# Altium footprint library Resistor_THT.PcbLib: 104 footprints (part 3 of 7)
Each footprint in its own frame and in the unit in brackets; x right, y up, seen from the top. Pads: shape width x height; smd on the part's side, far side on the other; paste and mask are expansions set on the pad; w line width, h text height; cw(c..) or ccw(c..) is an arc to the next point about the centre after c.
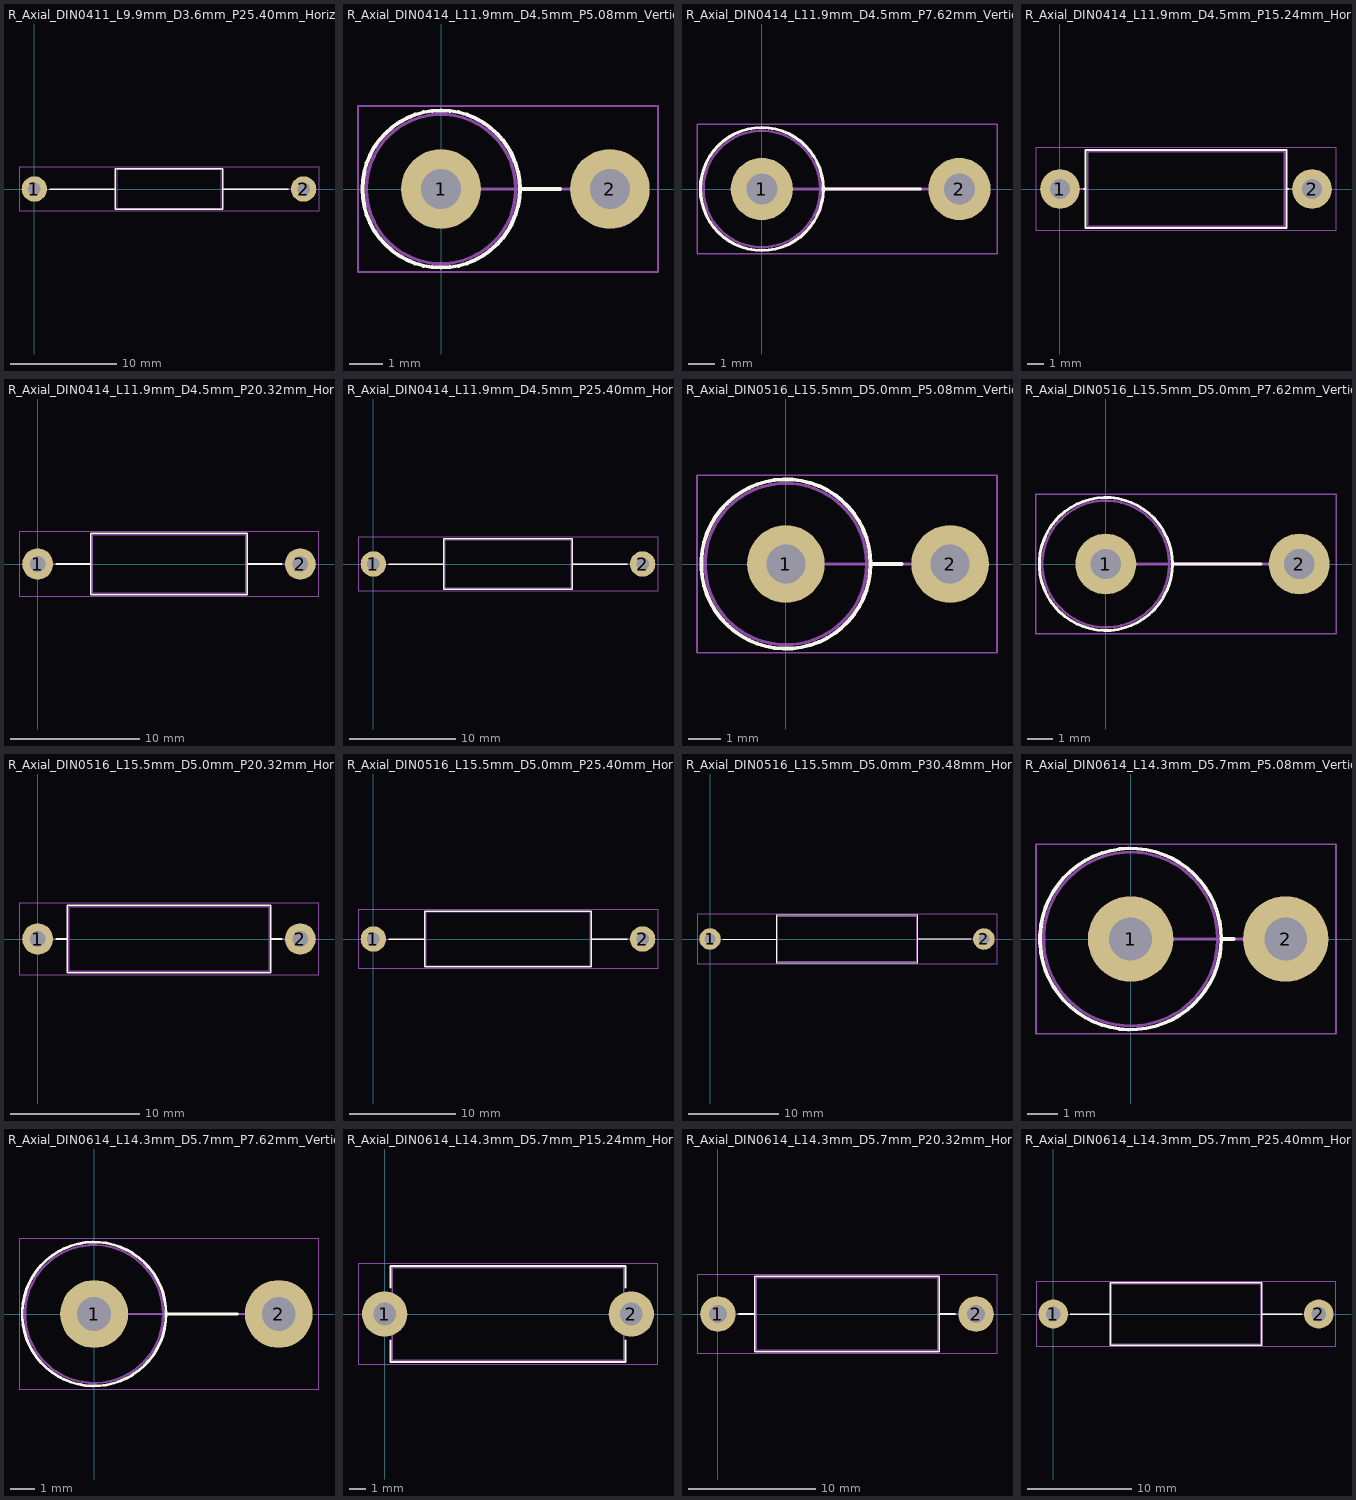
[diagram p2: the footprints below, top view; thin cyan lines are the x and y axes]

## R_Axial_DIN0411_L9.9mm_D3.6mm_P25.40mm_Horizontal [mm]
pads (2):
  round 2.4 hole 1.2: 1(0,0)
  rrect100% 2.4x2.4 hole 1.2: 2(25.4,0)
F.SilkS:
  lines w0.12: 1.44,0 7.63,0 ; 17.77,0 23.96,0 ; 7.63,-1.92 7.63,1.92 17.77,1.92 17.77,-1.92 7.63,-1.92
F.CrtYd:
  lines w0.05: -1.45,-2.05 26.85,-2.05 26.85,2.05 -1.45,2.05 -1.45,-2.05
F.Fab:
  lines w0.1: 0,0 7.75,0 ; 17.65,0 25.4,0 ; 7.75,-1.8 7.75,1.8 17.65,1.8 17.65,-1.8 7.75,-1.8
  text "'.Designator'" at 8.653,-0.84 h1

## R_Axial_DIN0414_L11.9mm_D4.5mm_P5.08mm_Vertical [mm]
pads (2):
  round 2.4 hole 1.2: 1(0,0)
  rrect100% 2.4x2.4 hole 1.2: 2(5.08,0)
F.SilkS:
  circle w0.12: c0,0 r2.37
  lines w0.12: 2.37,0 3.58,0
F.CrtYd:
  lines w0.05: -2.5,-2.5 -2.5,2.5 6.53,2.5 6.53,-2.5 -2.5,-2.5
F.Fab:
  circle w0.1: c0,0 r2.25
  lines w0.1: 0,0 5.08,0
  text "'.Designator'" at -1.507,2.53 h1

## R_Axial_DIN0414_L11.9mm_D4.5mm_P7.62mm_Vertical [mm]
pads (2):
  round 2.4 hole 1.2: 1(0,0)
  rrect100% 2.4x2.4 hole 1.2: 2(7.62,0)
F.SilkS:
  circle w0.12: c0,0 r2.37
  lines w0.12: 2.37,0 6.12,0
F.CrtYd:
  lines w0.05: -2.5,-2.5 9.07,-2.5 9.07,2.5 -2.5,2.5 -2.5,-2.5
F.Fab:
  circle w0.1: c0,0 r2.25
  lines w0.1: 0,0 7.62,0
  text "'.Designator'" at -0.237,2.53 h1

## R_Axial_DIN0414_L11.9mm_D4.5mm_P15.24mm_Horizontal [mm]
pads (2):
  round 2.4 hole 1.2: 1(0,0)
  rrect100% 2.4x2.4 hole 1.2: 2(15.24,0)
F.SilkS:
  lines w0.12: 1.44,0 1.55,0 ; 13.69,0 13.8,0 ; 1.55,-2.37 13.69,-2.37 13.69,2.37 1.55,2.37 1.55,-2.37
F.CrtYd:
  lines w0.05: -1.45,-2.5 -1.45,2.5 16.69,2.5 16.69,-2.5 -1.45,-2.5
F.Fab:
  lines w0.1: 0,0 1.67,0 ; 13.57,0 15.24,0 ; 1.67,-2.25 13.57,-2.25 13.57,2.25 1.67,2.25 1.67,-2.25
  text "'.Designator'" at 3.573,-0.84 h1

## R_Axial_DIN0414_L11.9mm_D4.5mm_P20.32mm_Horizontal [mm]
pads (2):
  round 2.4 hole 1.2: 1(0,0)
  rrect100% 2.4x2.4 hole 1.2: 2(20.32,0)
F.SilkS:
  lines w0.12: 1.44,0 4.09,0 ; 16.23,0 18.88,0 ; 4.09,-2.37 4.09,2.37 16.23,2.37 16.23,-2.37 4.09,-2.37
F.CrtYd:
  lines w0.05: -1.45,-2.5 -1.45,2.5 21.77,2.5 21.77,-2.5 -1.45,-2.5
F.Fab:
  lines w0.1: 0,0 4.21,0 ; 16.11,0 20.32,0 ; 4.21,-2.25 16.11,-2.25 16.11,2.25 4.21,2.25 4.21,-2.25
  text "'.Designator'" at 6.113,-0.84 h1

## R_Axial_DIN0414_L11.9mm_D4.5mm_P25.40mm_Horizontal [mm]
pads (2):
  round 2.4 hole 1.2: 1(0,0)
  rrect100% 2.4x2.4 hole 1.2: 2(25.4,0)
F.SilkS:
  lines w0.12: 1.44,0 6.63,0 ; 18.77,0 23.96,0 ; 6.63,-2.37 18.77,-2.37 18.77,2.37 6.63,2.37 6.63,-2.37
F.CrtYd:
  lines w0.05: -1.45,-2.5 -1.45,2.5 26.85,2.5 26.85,-2.5 -1.45,-2.5
F.Fab:
  lines w0.1: 0,0 6.75,0 ; 18.65,0 25.4,0 ; 6.75,-2.25 18.65,-2.25 18.65,2.25 6.75,2.25 6.75,-2.25
  text "'.Designator'" at 8.653,-0.84 h1

## R_Axial_DIN0516_L15.5mm_D5.0mm_P5.08mm_Vertical [mm]
pads (2):
  round 2.4 hole 1.2: 1(0,0)
  rrect100% 2.4x2.4 hole 1.2: 2(5.08,0)
F.SilkS:
  circle w0.12: c0,0 r2.62
  lines w0.12: 2.62,0 3.58,0
F.CrtYd:
  lines w0.05: -2.75,-2.75 -2.75,2.75 6.53,2.75 6.53,-2.75 -2.75,-2.75
F.Fab:
  circle w0.1: c0,0 r2.5
  lines w0.1: 0,0 5.08,0
  text "'.Designator'" at -1.507,2.78 h1

## R_Axial_DIN0516_L15.5mm_D5.0mm_P7.62mm_Vertical [mm]
pads (2):
  round 2.4 hole 1.2: 1(0,0)
  rrect100% 2.4x2.4 hole 1.2: 2(7.62,0)
F.SilkS:
  circle w0.12: c0,0 r2.62
  lines w0.12: 2.62,0 6.12,0
F.CrtYd:
  lines w0.05: -2.75,-2.75 9.07,-2.75 9.07,2.75 -2.75,2.75 -2.75,-2.75
F.Fab:
  circle w0.1: c0,0 r2.5
  lines w0.1: 0,0 7.62,0
  text "'.Designator'" at -0.237,2.78 h1

## R_Axial_DIN0516_L15.5mm_D5.0mm_P20.32mm_Horizontal [mm]
pads (2):
  round 2.4 hole 1.2: 1(0,0)
  rrect100% 2.4x2.4 hole 1.2: 2(20.32,0)
F.SilkS:
  lines w0.12: 1.44,0 2.29,0 ; 18.03,0 18.88,0 ; 2.29,-2.62 2.29,2.62 18.03,2.62 18.03,-2.62 2.29,-2.62
F.CrtYd:
  lines w0.05: -1.45,-2.75 21.77,-2.75 21.77,2.75 -1.45,2.75 -1.45,-2.75
F.Fab:
  lines w0.1: 0,0 2.41,0 ; 17.91,0 20.32,0 ; 2.41,-2.5 17.91,-2.5 17.91,2.5 2.41,2.5 2.41,-2.5
  text "'.Designator'" at 6.113,-0.84 h1

## R_Axial_DIN0516_L15.5mm_D5.0mm_P25.40mm_Horizontal [mm]
pads (2):
  round 2.4 hole 1.2: 1(0,0)
  rrect100% 2.4x2.4 hole 1.2: 2(25.4,0)
F.SilkS:
  lines w0.12: 1.44,0 4.83,0 ; 20.57,0 23.96,0 ; 4.83,-2.62 20.57,-2.62 20.57,2.62 4.83,2.62 4.83,-2.62
F.CrtYd:
  lines w0.05: -1.45,-2.75 26.85,-2.75 26.85,2.75 -1.45,2.75 -1.45,-2.75
F.Fab:
  lines w0.1: 0,0 4.95,0 ; 20.45,0 25.4,0 ; 4.95,-2.5 4.95,2.5 20.45,2.5 20.45,-2.5 4.95,-2.5
  text "'.Designator'" at 8.653,-0.84 h1

## R_Axial_DIN0516_L15.5mm_D5.0mm_P30.48mm_Horizontal [mm]
pads (2):
  round 2.4 hole 1.2: 1(0,0)
  rrect100% 2.4x2.4 hole 1.2: 2(30.48,0)
F.SilkS:
  lines w0.12: 1.44,0 7.37,0 ; 23.11,0 29.04,0 ; 7.37,-2.62 7.37,2.62 23.11,2.62 23.11,-2.62 7.37,-2.62
F.CrtYd:
  lines w0.05: -1.45,-2.75 31.94,-2.75 31.94,2.75 -1.45,2.75 -1.45,-2.75
F.Fab:
  lines w0.1: 0,0 7.49,0 ; 22.99,0 30.48,0 ; 7.49,-2.5 22.99,-2.5 22.99,2.5 7.49,2.5 7.49,-2.5
  text "'.Designator'" at 11.193,-0.84 h1

## R_Axial_DIN0614_L14.3mm_D5.7mm_P5.08mm_Vertical [mm]
pads (2):
  round 2.8 hole 1.4: 1(0,0)
  rrect100% 2.8x2.8 hole 1.4: 2(5.08,0)
F.SilkS:
  circle w0.12: c0,0 r2.97
  lines w0.12: 2.97,0 3.38,0
F.CrtYd:
  lines w0.05: -3.1,-3.1 -3.1,3.1 6.73,3.1 6.73,-3.1 -3.1,-3.1
F.Fab:
  circle w0.1: c0,0 r2.85
  lines w0.1: 0,0 5.08,0
  text "'.Designator'" at -1.507,3.13 h1

## R_Axial_DIN0614_L14.3mm_D5.7mm_P7.62mm_Vertical [mm]
pads (2):
  round 2.8 hole 1.4: 1(0,0)
  rrect100% 2.8x2.8 hole 1.4: 2(7.62,0)
F.SilkS:
  circle w0.12: c0,0 r2.97
  lines w0.12: 2.97,0 5.92,0
F.CrtYd:
  lines w0.05: -3.1,-3.1 9.28,-3.1 9.28,3.1 -3.1,3.1 -3.1,-3.1
F.Fab:
  circle w0.1: c0,0 r2.85
  lines w0.1: 0,0 7.62,0
  text "'.Designator'" at -0.237,3.13 h1

## R_Axial_DIN0614_L14.3mm_D5.7mm_P15.24mm_Horizontal [mm]
pads (2):
  round 2.8 hole 1.4: 1(0,0)
  rrect100% 2.8x2.8 hole 1.4: 2(15.24,0)
F.SilkS:
  lines w0.12: 0.35,-1.64 0.35,-2.97 14.89,-2.97 14.89,-1.64 ; 0.35,1.64 0.35,2.97 14.89,2.97 14.89,1.64
F.CrtYd:
  lines w0.05: -1.65,-3.1 16.89,-3.1 16.89,3.1 -1.65,3.1 -1.65,-3.1
F.Fab:
  lines w0.1: 0,0 0.47,0 ; 14.77,0 15.24,0 ; 0.47,-2.85 14.77,-2.85 14.77,2.85 0.47,2.85 0.47,-2.85
  text "'.Designator'" at 3.573,-0.84 h1

## R_Axial_DIN0614_L14.3mm_D5.7mm_P20.32mm_Horizontal [mm]
pads (2):
  round 2.8 hole 1.4: 1(0,0)
  rrect100% 2.8x2.8 hole 1.4: 2(20.32,0)
F.SilkS:
  lines w0.12: 1.64,0 2.89,0 ; 17.43,0 18.68,0 ; 2.89,-2.97 2.89,2.97 17.43,2.97 17.43,-2.97 2.89,-2.97
F.CrtYd:
  lines w0.05: -1.65,-3.1 -1.65,3.1 21.97,3.1 21.97,-3.1 -1.65,-3.1
F.Fab:
  lines w0.1: 0,0 3.01,0 ; 17.31,0 20.32,0 ; 3.01,-2.85 3.01,2.85 17.31,2.85 17.31,-2.85 3.01,-2.85
  text "'.Designator'" at 6.113,-0.84 h1

## R_Axial_DIN0614_L14.3mm_D5.7mm_P25.40mm_Horizontal [mm]
pads (2):
  round 2.8 hole 1.4: 1(0,0)
  rrect100% 2.8x2.8 hole 1.4: 2(25.4,0)
F.SilkS:
  lines w0.12: 1.64,0 5.43,0 ; 19.97,0 23.76,0 ; 5.43,-2.97 19.97,-2.97 19.97,2.97 5.43,2.97 5.43,-2.97
F.CrtYd:
  lines w0.05: -1.65,-3.1 27.05,-3.1 27.05,3.1 -1.65,3.1 -1.65,-3.1
F.Fab:
  lines w0.1: 0,0 5.55,0 ; 19.85,0 25.4,0 ; 5.55,-2.85 19.85,-2.85 19.85,2.85 5.55,2.85 5.55,-2.85
  text "'.Designator'" at 8.653,-0.84 h1